# Altium footprint library КОТ-С.PcbLib: 65 footprints (part 1 of 5)
Each footprint in its own frame and in the unit in brackets; x right, y up, seen from the top. Pads: shape width x height; smd on the part's side, far side on the other; paste and mask are expansions set on the pad; w line width, h text height; cw(c..) or ccw(c..) is an arc to the next point about the centre after c.
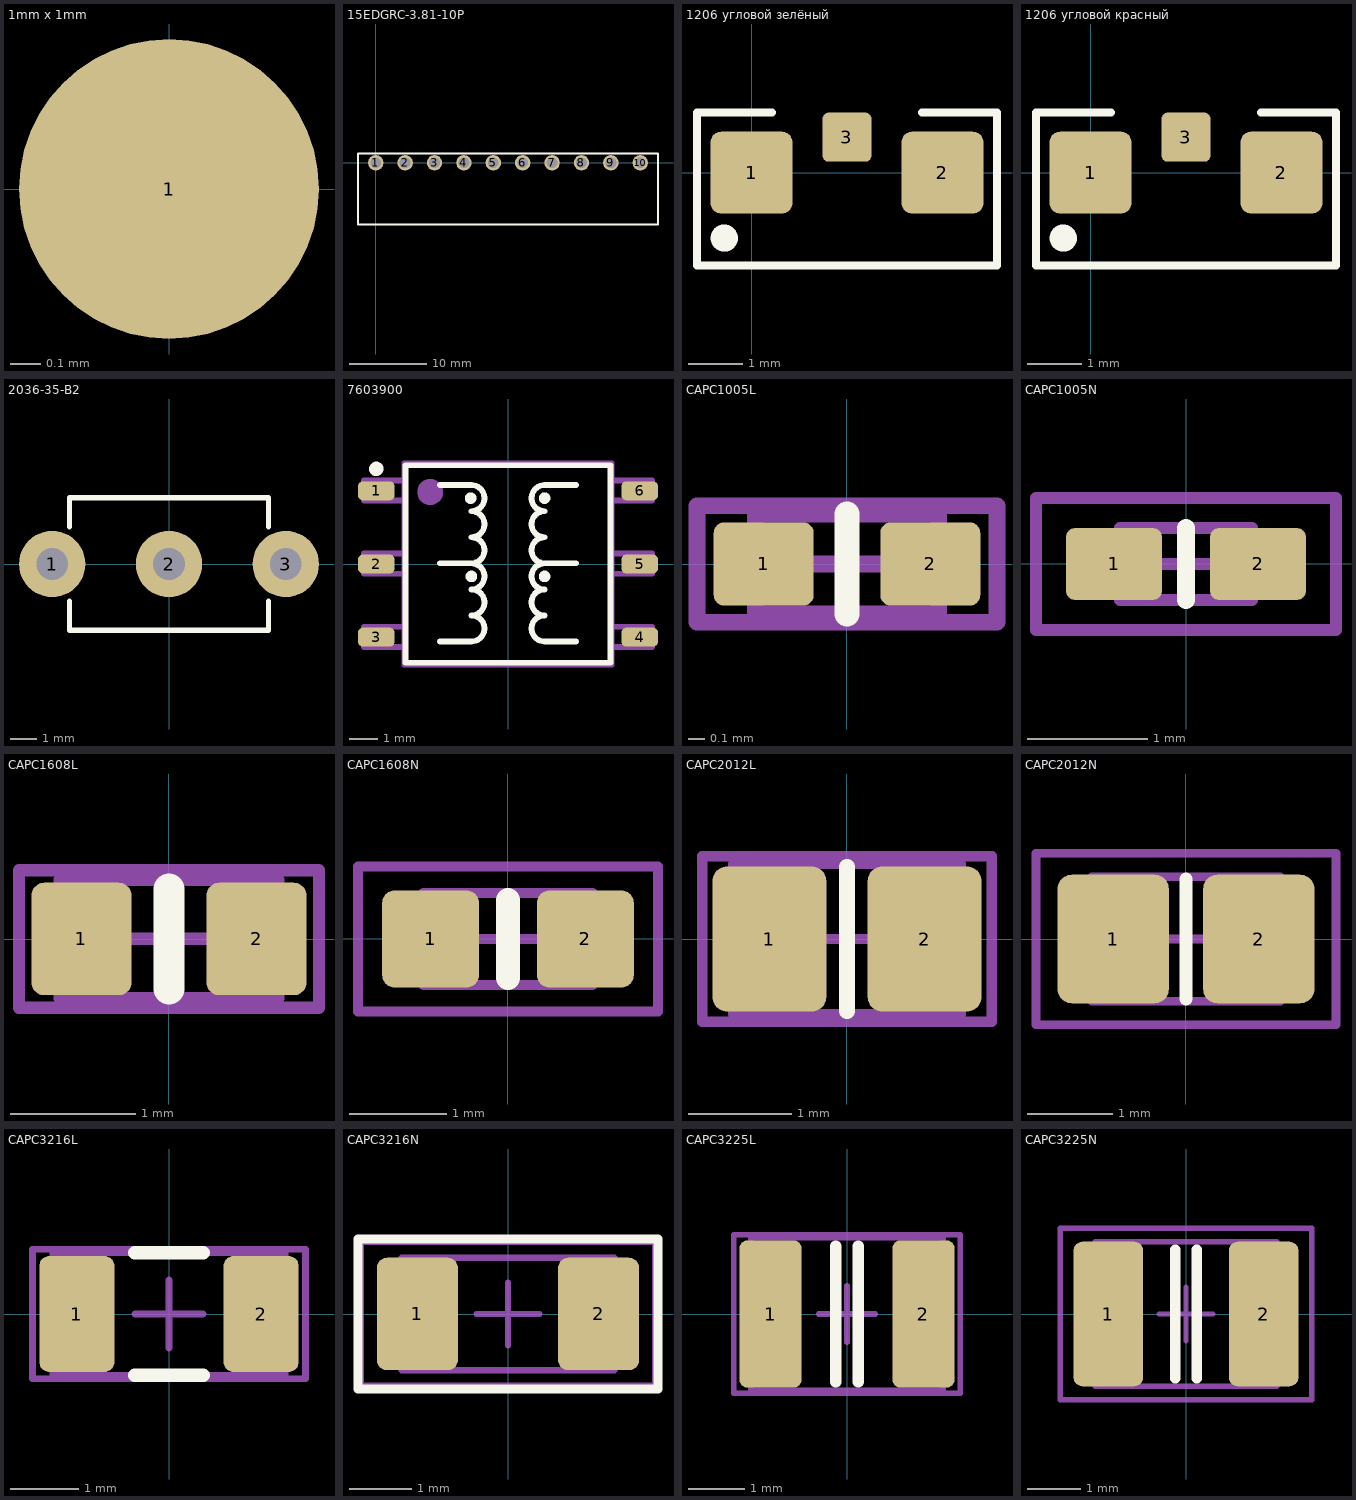
[diagram p0: the footprints below, top view; thin cyan lines are the x and y axes]

## 1mm x 1mm [mm] "Test Point"
pads (1):
  round 1 smd paste-2 mask+0.05: 1(0,0)

## 15EDGRC-3.81-10P [mm]
pads (10):
  round 2 hole 1.4 paste-0.025: 1(0,0) 2(3.81,0) 3(7.62,0) 4(11.43,0) 5(15.24,0) 6(19.05,0) 7(22.86,0) 8(26.67,0) 9(30.48,0) 10(34.29,0)
Top Overlay:
  lines w0.2: -2.3,-8 36.59,-8 36.59,1.2 -2.3,1.2 -2.3,-8
3D body "15EDGRC-3.81-10P.stp": height 7.22, standoff -3.38, extent -2.3,-8 36.59,1.2

## 1206 угловой зелёный [mm]
pads (3):
  rrect25% 1.5x1.5 smd paste-0.025: 1(0,0) 2(3.5,0)
  rrect25% 0.9x0.9 smd paste-0.025: 3(1.75,0.65)
Top Overlay:
  circle w0.3: c-0.5,-1.2 r0.1
  lines w0.15: 0.375,1.1 -1,1.1 -1,-1.7 4.5,-1.7 4.5,1.1 3.125,1.1
3D body "KPA-3010MGC.stp": height 1, standoff 0, extent 0.25,-1.7 3.25,0.3

## 1206 угловой красный [mm]
pads (3):
  rrect25% 1.5x1.5 smd paste-0.025: 1(0,0) 2(3.5,0)
  rrect25% 0.9x0.9 smd paste-0.025: 3(1.75,0.65)
Top Overlay:
  circle w0.3: c-0.5,-1.2 r0.1
  lines w0.15: 0.375,1.1 -1,1.1 -1,-1.7 4.5,-1.7 4.5,1.1 3.125,1.1

## 2036-35-B2 [mm]
pads (3):
  round 2.5 hole 1.2 mask+0.07: 1(-4.4,0) 2(0,0) 3(4.4,0)
Top Overlay:
  lines w0.2: -3.75,-1.4 -3.75,-2.5 3.75,-2.5 3.75,-1.4 ; -3.75,1.4 -3.75,2.5 3.75,2.5 3.75,1.4
3D body "2036-35-B2.stp": height 5.15, standoff -3.4, extent -4.855,-2.55 4.855,2.55

## 7603900 [mm] "7603900 series Wurst Transformer for SN6501"
pads (6):
  rrect50% 1.27x0.66 smd mask+0.07: 1(-4.572,2.54) 2(-4.572,0) 3(-4.572,-2.54) 4(4.572,-2.54) 5(4.572,0) 6(4.572,2.54)
Top Overlay:
  circle w0.3: c-4.572,3.302 r0.1
  circle w0.2: c-1.295,2.286 r0.1
  circle w0.2: c-1.27,-0.432 r0.1
  circle w0.2: c1.27,2.286 r0.1
  circle w0.2: c1.27,-0.432 r0.1
  lines w0.2: -2.362,-2.691 -1.27,-2.691 ccw(c-1.27,-2.238) -1.27,-1.786 ccw(c-1.27,-1.333) -1.27,-0.881 ccw(c-1.27,-0.429) -1.27,0.024 ; -2.362,0.023 -1.27,0.024 ; -2.362,2.738 -1.27,2.738 cw(c-1.27,2.286) -1.27,1.834 cw(c-1.27,1.381) -1.27,0.929 cw(c-1.27,0.476) -1.27,0.024 ; 2.362,-2.691 1.27,-2.691 cw(c1.27,-2.238) 1.27,-1.786 cw(c1.27,-1.333) 1.27,-0.881 cw(c1.27,-0.429) 1.27,0.024 ; 2.362,0.023 1.27,0.024 ; 2.362,2.738 1.27,2.738 ccw(c1.27,2.286) 1.27,1.834 ccw(c1.27,1.381) 1.27,0.929 ccw(c1.27,0.476) 1.27,0.024 ; -3.556,-3.429 3.556,-3.429 3.556,3.429 -3.556,3.429 -3.556,-3.429
Mechanical 5:
  circle w0.5: c-2.7,2.5 r0.2
  lines w0.2: -3.6,-2.88 -5,-2.88 -5,-2.18 -3.6,-2.18 ; -3.6,-0.34 -5,-0.34 -5,0.36 -3.6,0.36 ; -3.6,2.2 -5,2.2 -5,2.9 -3.6,2.9 ; 3.6,-2.88 5,-2.88 5,-2.18 3.6,-2.18 ; 3.6,-0.34 5,-0.34 5,0.36 3.6,0.36 ; 3.6,2.2 5,2.2 5,2.9 3.6,2.9 ; -3.6,-3.5 -3.6,3.5 3.6,3.5 3.6,-3.5 -3.6,-3.5
  text ".Designator" at -1.9,-0.8 h3
3D body: height 4.15, standoff 0.1, extent -3.556,-3.429 3.556,3.429

## CAPC1005L [mm] "Chip Capacitor, Body 1.0x0.5mm, IPC High Density"
height 0.6
pads (2):
  rrect25% 0.6x0.5 smd mask+0.075: 1(-0.5,0) 2(0.5,0)
Top Overlay:
  lines w0.15: 0,-0.3 0,0.3
Mechanical 13:
  lines w0.1: -0.55,-0.3 0.55,-0.3 0.55,0.3 -0.55,0.3 -0.55,-0.3
Mechanical 15:
  lines w0.1: -0.3,0 0.3,0 ; 0,-0.3 0,0.3 ; -0.9,-0.35 0.9,-0.35 0.9,0.35 -0.9,0.35 -0.9,-0.35
3D body: height 0.6, standoff 0, extent -0.55,-0.3 0.55,0.3

## CAPC1005N [mm] "Chip Capacitor, Body 1.0x0.5mm, IPC Medium Density"
height 0.6
pads (2):
  rrect25% 0.8x0.6 smd mask+0.075: 1(-0.6,0) 2(0.6,0)
Top Overlay:
  lines w0.15: 0,-0.3 0,0.3
Mechanical 13:
  lines w0.1: -0.55,-0.3 -0.55,0.3 0.55,0.3 0.55,-0.3 -0.55,-0.3
Mechanical 15:
  lines w0.1: -0.3,0 0.3,0 ; 0,-0.3 0,0.3 ; -1.25,-0.55 -1.25,0.55 1.25,0.55 1.25,-0.55 -1.25,-0.55
3D body: height 0.6, standoff 0, extent -0.55,-0.3 0.55,0.3

## CAPC1608L [mm] "Chip Capacitor, Body 1.6x0.8mm, IPC High Density"
height 0.85
pads (2):
  rrect25% 0.8x0.9 smd mask+0.075: 1(-0.7,0) 2(0.7,0)
Top Overlay:
  lines w0.25: 0,-0.4 0,0.4
Mechanical 5:
  lines w0.1: -0.875,-0.475 0.875,-0.475 0.875,0.475 -0.875,0.475 -0.875,-0.475
  text ".Designator" at -0.725,-0.175 h0.8
Mechanical 13:
  lines w0.1: -0.875,-0.475 -0.875,0.475 0.875,0.475 0.875,-0.475 -0.875,-0.475
Mechanical 15:
  lines w0.1: -0.475,0 0.475,0 ; 0,-0.475 0,0.475 ; -1.2,-0.55 -1.2,0.55 1.2,0.55 1.2,-0.55 -1.2,-0.55
3D body "CAPC1608.STEP": height 0.9, standoff 0, extent -0.8,-0.4 0.8,0.4

## CAPC1608N [mm] "Chip Capacitor, Body 1.6x0.8mm, IPC Medium Density"
height 0.85
pads (2):
  rrect25% 1x1 smd mask+0.075: 1(-0.8,0) 2(0.8,0)
Top Overlay:
  lines w0.25: 0,-0.4 0,0.4
Mechanical 5:
  lines w0.1: -0.875,-0.475 -0.875,0.475 0.875,0.475 0.875,-0.475 -0.875,-0.475
  text ".Designator" at -0.725,-0.175 h0.8
Mechanical 13:
  lines w0.1: -0.875,-0.475 -0.875,0.475 0.875,0.475 0.875,-0.475 -0.875,-0.475
Mechanical 15:
  lines w0.1: -0.475,0 0.475,0 ; 0,-0.475 0,0.475 ; -1.55,-0.75 -1.55,0.75 1.55,0.75 1.55,-0.75 -1.55,-0.75
3D body "CAPC1608.STEP": height 0.9, standoff 0, extent -0.8,-0.4 0.8,0.4

## CAPC2012L [mm] "Chip Capacitor, Body 2.0x1.3mm, IPC High Density"
height 1.1
pads (2):
  rrect25% 1.1x1.4 smd mask+0.075: 1(-0.75,0) 2(0.75,0)
Top Overlay:
  lines w0.15: 0,-0.7 0,0.7
Mechanical 5:
  lines w0.1: -1.1,-0.725 1.1,-0.725 1.1,0.725 -1.1,0.725 -1.1,-0.725
  text ".Designator" at -0.925,-0.275 h1.2
Mechanical 13:
  lines w0.1: -1.1,-0.725 -1.1,0.725 1.1,0.725 1.1,-0.725 -1.1,-0.725
Mechanical 15:
  lines w0.1: -0.5,0 0.5,0 ; 0,-0.5 0,0.5 ; -1.4,-0.8 -1.4,0.8 1.4,0.8 1.4,-0.8 -1.4,-0.8
3D body "CAPC2012.STEP": height 0.9, standoff 0, extent -1,-0.6 1,0.6

## CAPC2012N [mm] "Chip Capacitor, Body 2.0x1.3mm, IPC Medium Density"
height 1.1
pads (2):
  rrect25% 1.3x1.5 smd mask+0.075: 1(-0.85,0) 2(0.85,0)
Top Overlay:
  lines w0.15: 0,-0.7 0,0.7
Mechanical 5:
  lines w0.1: -1.1,-0.725 -1.1,0.725 1.1,0.725 1.1,-0.725 -1.1,-0.725
  text ".Designator" at -0.925,-0.275 h1.2
Mechanical 13:
  lines w0.1: -1.1,-0.725 1.1,-0.725 1.1,0.725 -1.1,0.725 -1.1,-0.725
Mechanical 15:
  lines w0.1: -0.5,0 0.5,0 ; 0,-0.5 0,0.5 ; -1.75,-1 1.75,-1 1.75,1 -1.75,1 -1.75,-1
3D body "CAPC2012.STEP": height 0.9, standoff 0, extent -1,-0.6 1,0.6

## CAPC3216L [mm] "Chip Capacitor, Body 3.2x1.6mm, IPC High Density"
height 1.35
pads (2):
  rrect25% 1.1x1.7 smd mask+0.075: 1(-1.35,0) 2(1.35,0)
Top Overlay:
  lines w0.2: -0.5,-0.9 0.5,-0.9 ; -0.5,0.9 0.5,0.9
Mechanical 13:
  lines w0.1: -1.7,-0.9 -1.7,0.9 1.7,0.9 1.7,-0.9 -1.7,-0.9
Mechanical 15:
  lines w0.1: -0.5,0 0.5,0 ; 0,-0.5 0,0.5 ; -2,-0.95 -2,0.95 2,0.95 2,-0.95 -2,-0.95
3D body "CAPC3216.STEP": height 1.3, standoff 0, extent -1.6,-0.8 1.6,0.8

## CAPC3216N [mm] "Chip Capacitor, Body 3.2x1.6mm, IPC Medium Density"
height 1.35
pads (2):
  rrect25% 1.3x1.8 smd mask+0.075: 1(-1.45,0) 2(1.45,0)
Top Overlay:
  lines w0.15: -2.4,-1.2 -2.4,1.2 2.4,1.2 2.4,-1.2 -2.4,-1.2
Mechanical 13:
  lines w0.1: -1.7,-0.9 -1.7,0.9 1.7,0.9 1.7,-0.9 -1.7,-0.9
Mechanical 15:
  lines w0.1: -0.5,0 0.5,0 ; 0,-0.5 0,0.5 ; -2.35,-1.15 -2.35,1.15 2.35,1.15 2.35,-1.15 -2.35,-1.15
3D body "CAPC3216.STEP": height 1.3, standoff 0, extent -1.6,-0.8 1.6,0.8

## CAPC3225L [mm] "Chip Capacitor, Body 3.2x2.5mm, IPC High Density"
height 1.35
pads (2):
  rrect25% 1.1x2.6 smd mask+0.075: 1(-1.35,0) 2(1.35,0)
Top Overlay:
  lines w0.2: -0.2,-1.2 -0.2,1.2 ; 0.2,-1.2 0.2,1.2
Mechanical 13:
  lines w0.1: -1.7,-1.35 1.7,-1.35 1.7,1.35 -1.7,1.35 -1.7,-1.35
Mechanical 15:
  lines w0.1: -0.5,0 0.5,0 ; 0,-0.5 0,0.5 ; -2,-1.4 2,-1.4 2,1.4 -2,1.4 -2,-1.4
3D body "CAPC3225.STEP": height 1.3, standoff 0, extent -1.6,-1.25 1.6,1.25

## CAPC3225N [mm] "Chip Capacitor, Body 3.2x2.5mm, IPC Medium Density"
height 1.35
pads (2):
  rrect25% 1.3x2.7 smd mask+0.075: 1(-1.45,0) 2(1.45,0)
Top Overlay:
  lines w0.2: -0.2,-1.2 -0.2,1.2 ; 0.2,-1.2 0.2,1.2
Mechanical 13:
  lines w0.1: -1.7,-1.35 -1.7,1.35 1.7,1.35 1.7,-1.35 -1.7,-1.35
Mechanical 15:
  lines w0.1: -0.5,0 0.5,0 ; 0,-0.5 0,0.5 ; -2.35,-1.6 -2.35,1.6 2.35,1.6 2.35,-1.6 -2.35,-1.6
3D body "CAPC3225.STEP": height 1.3, standoff 0, extent -1.6,-1.25 1.6,1.25